# Altium schematic symbol library Actel IGLOOnano FPGA.SchLib: 440 symbols (part 2 of 3)
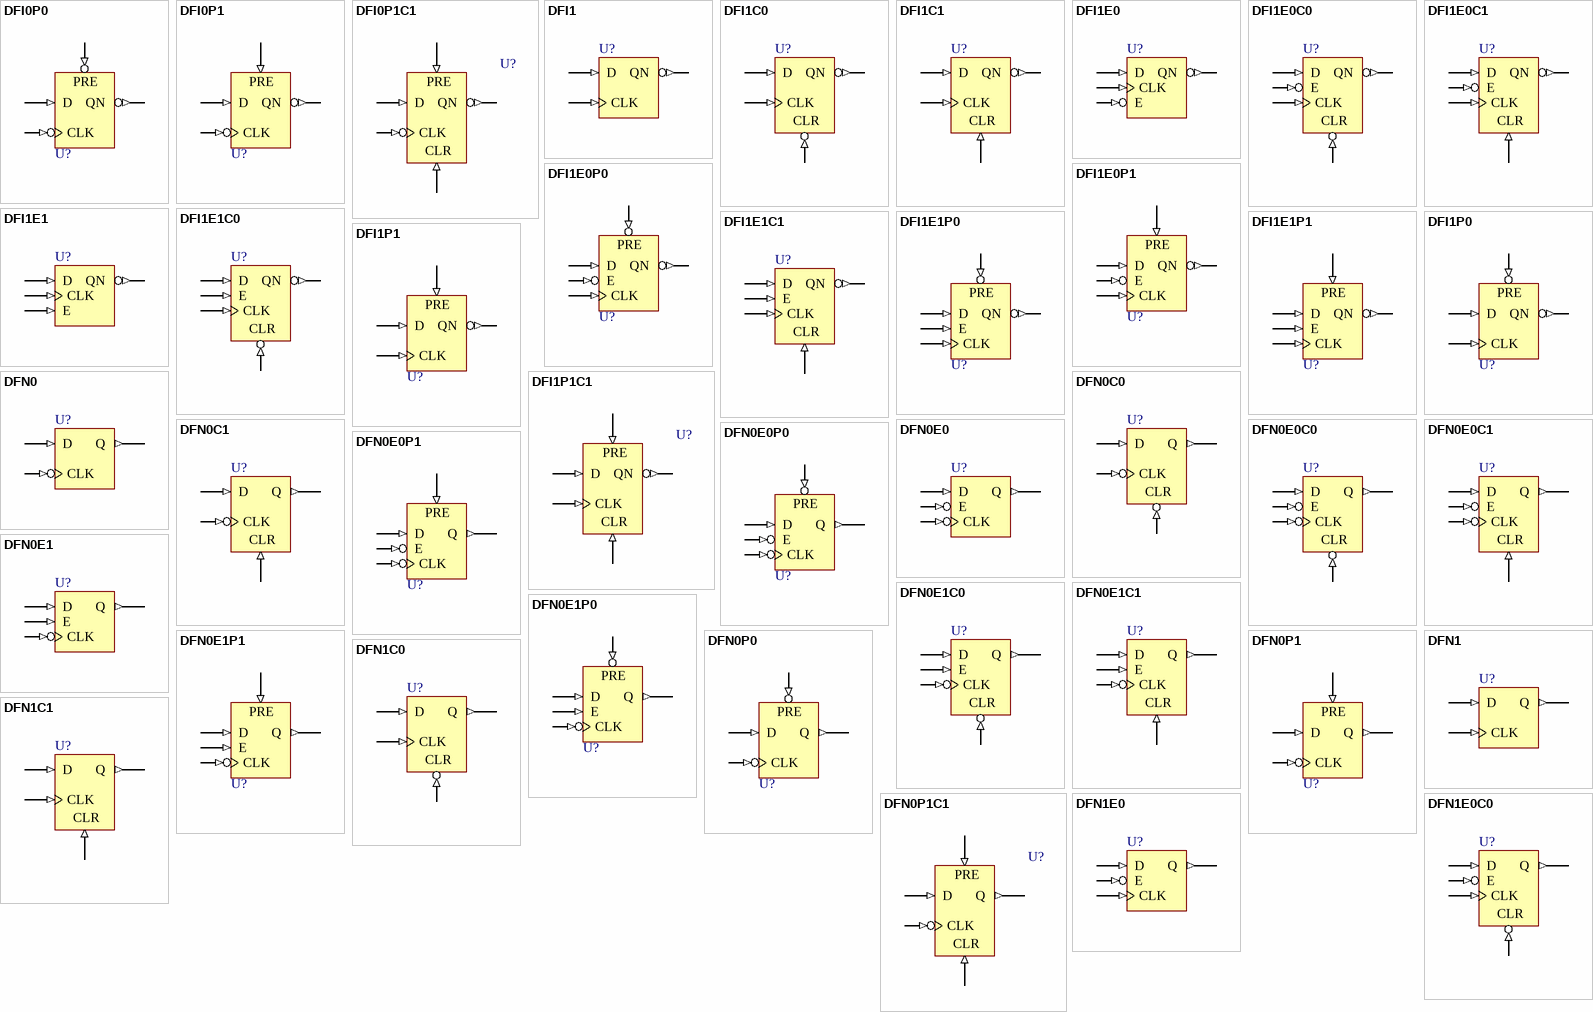
[diagram p12: symbols DFI0P0 to DFN1E0C0]

## DFI1E1P0
designator U?
D-Type Flip-Flop with active high Enable, active low Preset, and inverted output; FPGAVendor: Actel; Published: 25-Oct-2005; Publisher: Altium Limited; HelpURL: http://www.actel.com/documents/pa3_libguide_ug.pdf
pins: CLK (in), D (in), E (in), PRE (in), QN (out)

## DFI1E1P1
designator U?
D-Type Flip-Flop with active high Enable and Preset and inverted output; FPGAVendor: Actel; Published: 25-Oct-2005; Publisher: Altium Limited; HelpURL: http://www.actel.com/documents/pa3_libguide_ug.pdf
pins: CLK (in), D (in), E (in), PRE (in), QN (out)

## DFI1P0
designator U?
D-Type Flip-Flop with active low Preset and inverted Output; FPGAVendor: Actel; Published: 25-Oct-2005; Publisher: Altium Limited; HelpURL: http://www.actel.com/documents/pa3_libguide_ug.pdf
pins: CLK (in), D (in), PRE (in), QN (out)

## DFI1P1
designator U?
D-Type Flip-Flop with active high Preset, and inverted Output; FPGAVendor: Actel; Published: 25-Oct-2005; Publisher: Altium Limited; HelpURL: http://www.actel.com/documents/pa3_libguide_ug.pdf
pins: CLK (in), D (in), PRE (in), QN (out)

## DFI1P1C1
designator U?
Rising Edge Triggered D-Type Flip-Flop with Active High Preset and Clear and inverted Output; FPGAVendor: Actel; Published: 25-Oct-2005; Publisher: Altium Limited; HelpURL: http://www.actel.com/documents/pa3_libguide_ug.pdf
pins: CLK (in), CLR (in), D (in), PRE (in), QN (out)

## DFN0
designator U?
D-Type Flip-Flop with active low Clock; FPGAVendor: Actel; Published: 25-Oct-2005; Publisher: Altium Limited; HelpURL: http://www.actel.com/documents/pa3_libguide_ug.pdf
pins: CLK (in), D (in), Q (out)

## DFN0C0
designator U?
D-Type Flip-Flop with active low Clear and Clock; FPGAVendor: Actel; Published: 25-Oct-2005; Publisher: Altium Limited; HelpURL: http://www.actel.com/documents/pa3_libguide_ug.pdf
pins: CLK (in), CLR (in), D (in), Q (out)

## DFN0C1
designator U?
D-Type Flip-Flop with active high Clear and active low Clock; FPGAVendor: Actel; Published: 25-Oct-2005; Publisher: Altium Limited; HelpURL: http://www.actel.com/documents/pa3_libguide_ug.pdf
pins: CLK (in), CLR (in), D (in), Q (out)

## DFN0E0
designator U?
D-Type Flip-Flop with active low Enable and Clock; FPGAVendor: Actel; Published: 25-Oct-2005; Publisher: Altium Limited; HelpURL: http://www.actel.com/documents/pa3_libguide_ug.pdf
pins: CLK (in), D (in), E (in), Q (out)

## DFN0E0C0
designator U?
D-Type Flip-Flop with active low Enable, Clear and Clock; FPGAVendor: Actel; Published: 25-Oct-2005; Publisher: Altium Limited; HelpURL: http://www.actel.com/documents/pa3_libguide_ug.pdf
pins: CLK (in), CLR (in), D (in), E (in), Q (out)

## DFN0E0C1
designator U?
D-Type Flip-Flop with active low Enable, Clock and active high Clear; FPGAVendor: Actel; Published: 25-Oct-2005; Publisher: Altium Limited; HelpURL: http://www.actel.com/documents/pa3_libguide_ug.pdf
pins: CLK (in), CLR (in), D (in), E (in), Q (out)

## DFN0E0P0
designator U?
D-Type Flip-Flop with active low Enable, Clock, and Preset; FPGAVendor: Actel; Published: 25-Oct-2005; Publisher: Altium Limited; HelpURL: http://www.actel.com/documents/pa3_libguide_ug.pdf
pins: CLK (in), D (in), E (in), PRE (in), Q (out)

## DFN0E0P1
designator U?
D-Type Flip-Flop with active low Enable and Clock, and active high Preset; FPGAVendor: Actel; Published: 25-Oct-2005; Publisher: Altium Limited; HelpURL: http://www.actel.com/documents/pa3_libguide_ug.pdf
pins: CLK (in), D (in), E (in), PRE (in), Q (out)

## DFN0E1
designator U?
D-Type Flip-Flop, with Enable, and active low Clock; FPGAVendor: Actel; Published: 25-Oct-2005; Publisher: Altium Limited; HelpURL: http://www.actel.com/documents/pa3_libguide_ug.pdf
pins: CLK (in), D (in), E (in), Q (out)

## DFN0E1C0
designator U?
D-Type Flip-Flop with Enable and active low Clear and Clock; FPGAVendor: Actel; Published: 25-Oct-2005; Publisher: Altium Limited; HelpURL: http://www.actel.com/documents/pa3_libguide_ug.pdf
pins: CLK (in), CLR (in), D (in), E (in), Q (out)

## DFN0E1C1
designator U?
D-Type Flip-Flop with Enable and active high Clear and active low Clock; FPGAVendor: Actel; Published: 25-Oct-2005; Publisher: Altium Limited; HelpURL: http://www.actel.com/documents/pa3_libguide_ug.pdf
pins: CLK (in), CLR (in), D (in), E (in), Q (out)

## DFN0E1P0
designator U?
D-Type Flip-Flop with active high Enable and active low Preset and Clock; FPGAVendor: Actel; Published: 25-Oct-2005; Publisher: Altium Limited; HelpURL: http://www.actel.com/documents/pa3_libguide_ug.pdf
pins: CLK (in), D (in), E (in), PRE (in), Q (out)

## DFN0E1P1
designator U?
D-Type Flip-Flop with active high Enable and Preset, and active low Clock; FPGAVendor: Actel; Published: 25-Oct-2005; Publisher: Altium Limited; HelpURL: http://www.actel.com/documents/pa3_libguide_ug.pdf
pins: CLK (in), D (in), E (in), PRE (in), Q (out)

## DFN0P0
designator U?
D-Type Flip-Flop with active low Preset and Clock; FPGAVendor: Actel; Published: 25-Oct-2005; Publisher: Altium Limited; HelpURL: http://www.actel.com/documents/pa3_libguide_ug.pdf
pins: CLK (in), D (in), PRE (in), Q (out)

## DFN0P1
designator U?
D-Type Flip-Flop with active high Preset, and active low Clock; FPGAVendor: Actel; Published: 25-Oct-2005; Publisher: Altium Limited; HelpURL: http://www.actel.com/documents/pa3_libguide_ug.pdf
pins: CLK (in), D (in), PRE (in), Q (out)

## DFN0P1C1
designator U?
Falling Edge Triggered D-Type Flip-Flop with Active High Preset and Clear; FPGAVendor: Actel; Published: 25-Oct-2005; Publisher: Altium Limited; HelpURL: http://www.actel.com/documents/pa3_libguide_ug.pdf
pins: CLK (in), CLR (in), D (in), PRE (in), Q (out)

## DFN1
designator U?
D-Type Flip-Flop; FPGAVendor: Actel; Published: 25-Oct-2005; Publisher: Altium Limited; HelpURL: http://www.actel.com/documents/pa3_libguide_ug.pdf
pins: CLK (in), D (in), Q (out)

## DFN1C0
designator U?
D-Type Flip-Flop with active low Clear; FPGAVendor: Actel; Published: 25-Oct-2005; Publisher: Altium Limited; HelpURL: http://www.actel.com/documents/pa3_libguide_ug.pdf
pins: CLK (in), CLR (in), D (in), Q (out)

## DFN1C1
designator U?
D-Type Flip-Flop with active high Clear; FPGAVendor: Actel; Published: 25-Oct-2005; Publisher: Altium Limited; HelpURL: http://www.actel.com/documents/pa3_libguide_ug.pdf
pins: CLK (in), CLR (in), D (in), Q (out)

## DFN1E0
designator U?
D-Type Flip-Flop with active low Enable; FPGAVendor: Actel; Published: 25-Oct-2005; Publisher: Altium Limited; HelpURL: http://www.actel.com/documents/pa3_libguide_ug.pdf
pins: CLK (in), D (in), E (in), Q (out)

## DFN1E0C0
designator U?
D-Type Flip-Flop with Active Low Enable and Clear; FPGAVendor: Actel; Published: 25-Oct-2005; Publisher: Altium Limited; HelpURL: http://www.actel.com/documents/pa3_libguide_ug.pdf
pins: CLK (in), CLR (in), D (in), E (in), Q (out)

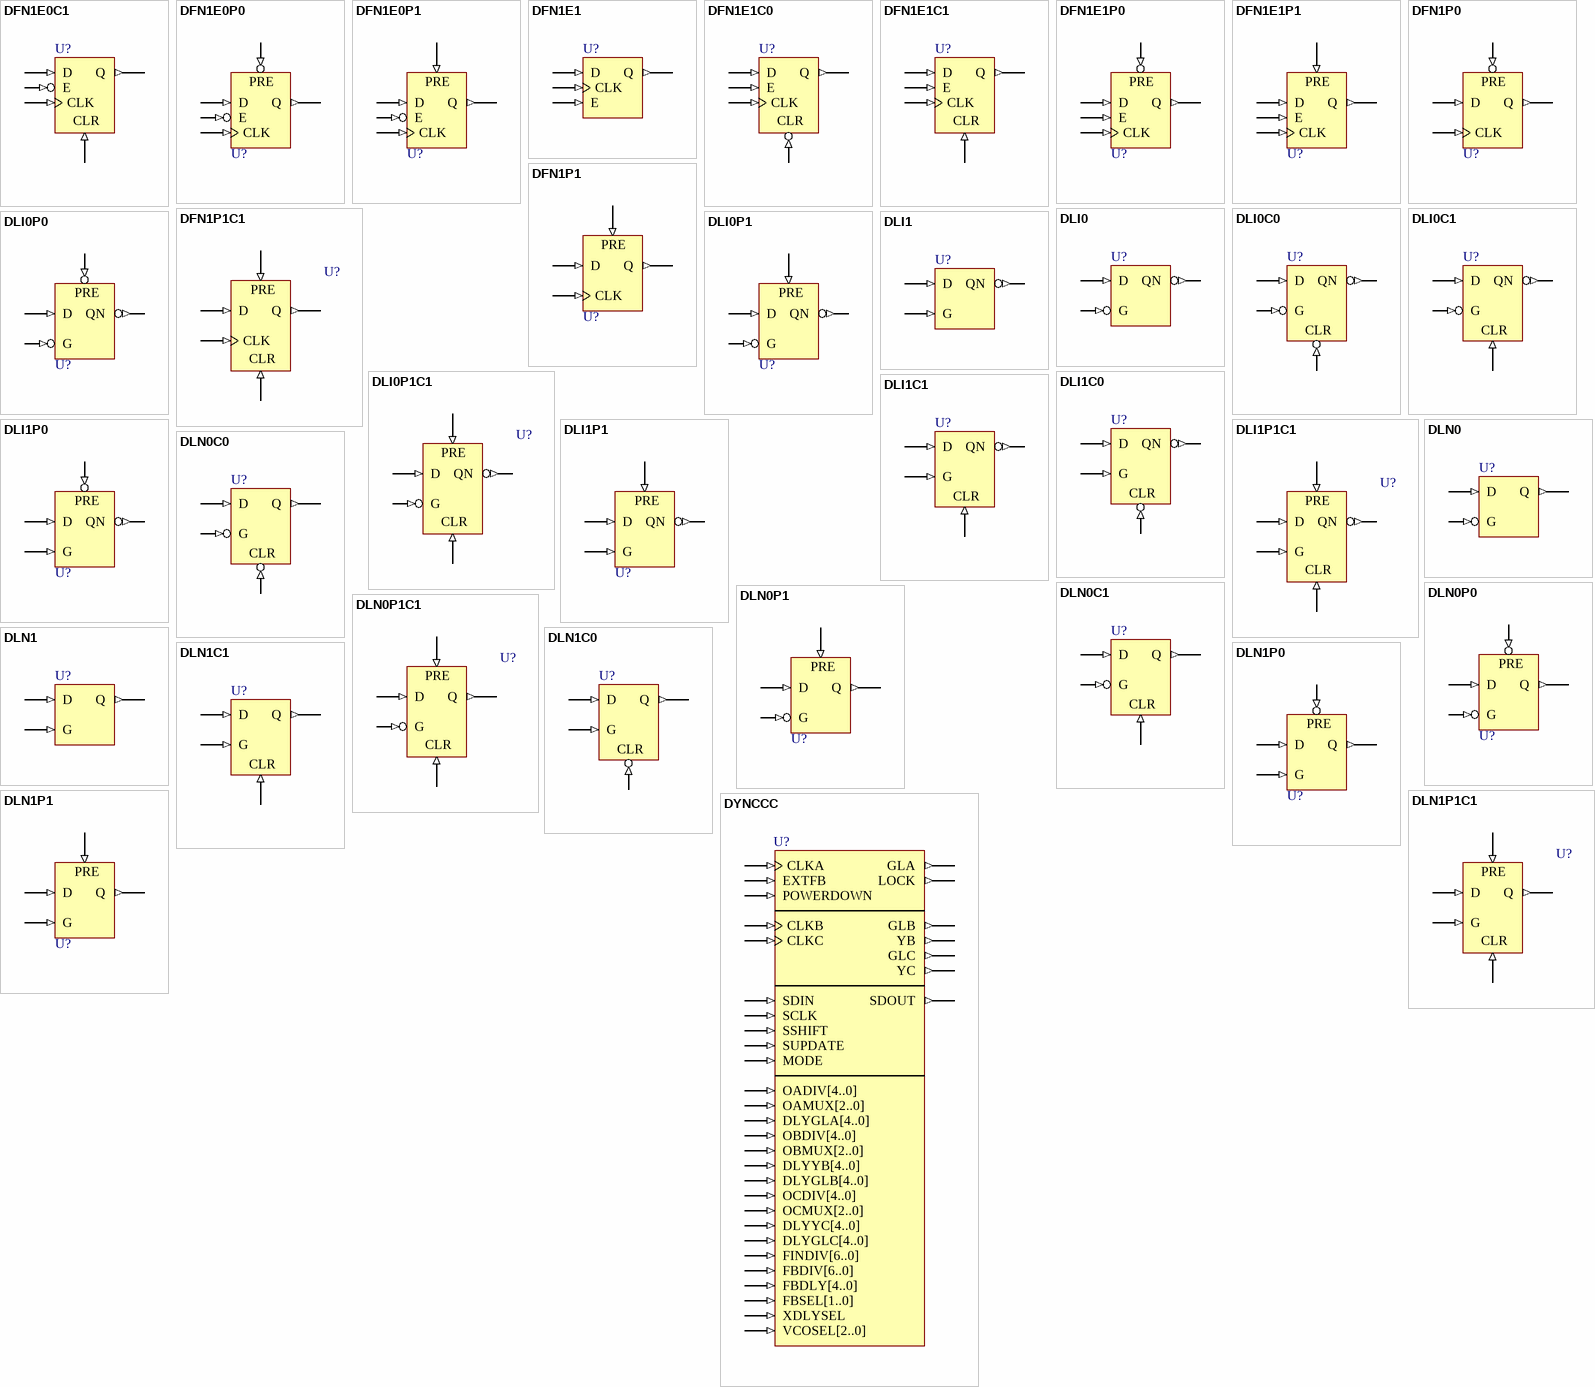
[diagram p5: symbols DFN1E0C1 to DYNCCC]

## DFN1E0C1
designator U?
D-Type Flip-Flop with Active Low Enable and active high Clear; FPGAVendor: Actel; Published: 25-Oct-2005; Publisher: Altium Limited; HelpURL: http://www.actel.com/documents/pa3_libguide_ug.pdf
pins: CLK (in), CLR (in), D (in), E (in), Q (out)

## DFN1E0P0
designator U?
D-Type Flip-Flop with active low Enable and Preset; FPGAVendor: Actel; Published: 25-Oct-2005; Publisher: Altium Limited; HelpURL: http://www.actel.com/documents/pa3_libguide_ug.pdf
pins: CLK (in), D (in), E (in), PRE (in), Q (out)

## DFN1E0P1
designator U?
D-Type Flip-Flop with active low Enable, and active high Preset; FPGAVendor: Actel; Published: 25-Oct-2005; Publisher: Altium Limited; HelpURL: http://www.actel.com/documents/pa3_libguide_ug.pdf
pins: CLK (in), D (in), E (in), PRE (in), Q (out)

## DFN1E1
designator U?
D-Type Flip-Flop with active high Enable; FPGAVendor: Actel; Published: 25-Oct-2005; Publisher: Altium Limited; HelpURL: http://www.actel.com/documents/pa3_libguide_ug.pdf
pins: CLK (in), D (in), E (in), Q (out)

## DFN1E1C0
designator U?
D-Type Flip-Flop, with Enable and active low Clear; FPGAVendor: Actel; Published: 25-Oct-2005; Publisher: Altium Limited; HelpURL: http://www.actel.com/documents/pa3_libguide_ug.pdf
pins: CLK (in), CLR (in), D (in), E (in), Q (out)

## DFN1E1C1
designator U?
D-Type Flip-Flop, with Enable and active high Clear; FPGAVendor: Actel; Published: 25-Oct-2005; Publisher: Altium Limited; HelpURL: http://www.actel.com/documents/pa3_libguide_ug.pdf
pins: CLK (in), CLR (in), D (in), E (in), Q (out)

## DFN1E1P0
designator U?
D-Type Flip-Flop with active high Enable and active low Preset; FPGAVendor: Actel; Published: 25-Oct-2005; Publisher: Altium Limited; HelpURL: http://www.actel.com/documents/pa3_libguide_ug.pdf
pins: CLK (in), D (in), E (in), PRE (in), Q (out)

## DFN1E1P1
designator U?
D-Type Flip-Flop with active high Enable and Preset; FPGAVendor: Actel; Published: 25-Oct-2005; Publisher: Altium Limited; HelpURL: http://www.actel.com/documents/pa3_libguide_ug.pdf
pins: CLK (in), D (in), E (in), PRE (in), Q (out)

## DFN1P0
designator U?
D-Type Flip-Flop with active low Preset; FPGAVendor: Actel; Published: 25-Oct-2005; Publisher: Altium Limited; HelpURL: http://www.actel.com/documents/pa3_libguide_ug.pdf
pins: CLK (in), D (in), PRE (in), Q (out)

## DFN1P1
designator U?
D-Type Flip-Flop with active high Preset; FPGAVendor: Actel; Published: 25-Oct-2005; Publisher: Altium Limited; HelpURL: http://www.actel.com/documents/pa3_libguide_ug.pdf
pins: CLK (in), D (in), PRE (in), Q (out)

## DFN1P1C1
designator U?
Rising Edge Triggered D-Type Flip-Flop with Active High Preset and Clear; FPGAVendor: Actel; Published: 25-Oct-2005; Publisher: Altium Limited; HelpURL: http://www.actel.com/documents/pa3_libguide_ug.pdf
pins: CLK (in), CLR (in), D (in), PRE (in), Q (out)

## DLI0
designator U?
Data Latch, with active low Clock and inverted Output; FPGAVendor: Actel; Published: 25-Oct-2005; Publisher: Altium Limited; HelpURL: http://www.actel.com/documents/pa3_libguide_ug.pdf
pins: D (in), G (in), QN (out)

## DLI0C0
designator U?
Data Latch with active low Clear, Clock, and inverted Output; FPGAVendor: Actel; Published: 25-Oct-2005; Publisher: Altium Limited; HelpURL: http://www.actel.com/documents/pa3_libguide_ug.pdf
pins: CLR (in), D (in), G (in), QN (out)

## DLI0C1
designator U?
Data Latch with active high Clear and active low Clock and inverted Output; FPGAVendor: Actel; Published: 25-Oct-2005; Publisher: Altium Limited; HelpURL: http://www.actel.com/documents/pa3_libguide_ug.pdf
pins: CLR (in), D (in), G (in), QN (out)

## DLI0P0
designator U?
Data Latch with active low Preset, Clock, and inverted Output; FPGAVendor: Actel; Published: 25-Oct-2005; Publisher: Altium Limited; HelpURL: http://www.actel.com/documents/pa3_libguide_ug.pdf
pins: D (in), G (in), PRE (in), QN (out)

## DLI0P1
designator U?
Active Low Latch with Active High Preset and inverted Output; FPGAVendor: Actel; Published: 25-Oct-2005; Publisher: Altium Limited; HelpURL: http://www.actel.com/documents/pa3_libguide_ug.pdf
pins: D (in), G (in), PRE (in), QN (out)

## DLI0P1C1
designator U?
Active Low Latch with Active High Preset and Clear and inverted Output; FPGAVendor: Actel; Published: 25-Oct-2005; Publisher: Altium Limited; HelpURL: http://www.actel.com/documents/pa3_libguide_ug.pdf
pins: CLR (in), D (in), G (in), PRE (in), QN (out)

## DLI1
designator U?
Data Latch with inverted Output; FPGAVendor: Actel; Published: 25-Oct-2005; Publisher: Altium Limited; HelpURL: http://www.actel.com/documents/pa3_libguide_ug.pdf
pins: D (in), G (in), QN (out)

## DLI1C0
designator U?
Data Latch with active low Clear and inverted output; FPGAVendor: Actel; Published: 25-Oct-2005; Publisher: Altium Limited; HelpURL: http://www.actel.com/documents/pa3_libguide_ug.pdf
pins: CLR (in), D (in), G (in), QN (out)

## DLI1C1
designator U?
Data Latch with active high Clear and inverted Output; FPGAVendor: Actel; Published: 25-Oct-2005; Publisher: Altium Limited; HelpURL: http://www.actel.com/documents/pa3_libguide_ug.pdf
pins: CLR (in), D (in), G (in), QN (out)

## DLI1P0
designator U?
Data Latch with active low Preset and Output, and active high Clock; FPGAVendor: Actel; Published: 25-Oct-2005; Publisher: Altium Limited; HelpURL: http://www.actel.com/documents/pa3_libguide_ug.pdf
pins: D (in), G (in), PRE (in), QN (out)

## DLI1P1
designator U?
Active High Latch with Active High Preset and inverted Output; FPGAVendor: Actel; Published: 25-Oct-2005; Publisher: Altium Limited; HelpURL: http://www.actel.com/documents/pa3_libguide_ug.pdf
pins: D (in), G (in), PRE (in), QN (out)

## DLI1P1C1
designator U?
Active High Latch with Active High Preset and Clear and inverted Output; FPGAVendor: Actel; Published: 25-Oct-2005; Publisher: Altium Limited; HelpURL: http://www.actel.com/documents/pa3_libguide_ug.pdf
pins: CLR (in), D (in), G (in), PRE (in), QN (out)

## DLN0
designator U?
Data Latch with active low Clock; FPGAVendor: Actel; Published: 25-Oct-2005; Publisher: Altium Limited; HelpURL: http://www.actel.com/documents/pa3_libguide_ug.pdf
pins: D (in), G (in), Q (out)

## DLN0C0
designator U?
Data Latch with active low Clear and Clock; FPGAVendor: Actel; Published: 25-Oct-2005; Publisher: Altium Limited; HelpURL: http://www.actel.com/documents/pa3_libguide_ug.pdf
pins: CLR (in), D (in), G (in), Q (out)

## DLN0C1
designator U?
Data Latch with active high Clear and active low Clock; FPGAVendor: Actel; Published: 25-Oct-2005; Publisher: Altium Limited; HelpURL: http://www.actel.com/documents/pa3_libguide_ug.pdf
pins: CLR (in), D (in), G (in), Q (out)

## DLN0P0
designator U?
Data Latch with active low Preset and Clock; FPGAVendor: Actel; Published: 25-Oct-2005; Publisher: Altium Limited; HelpURL: http://www.actel.com/documents/pa3_libguide_ug.pdf
pins: D (in), G (in), PRE (in), Q (out)

## DLN0P1
designator U?
Data Latch with active high Preset and active low Clock; FPGAVendor: Actel; Published: 25-Oct-2005; Publisher: Altium Limited; HelpURL: http://www.actel.com/documents/pa3_libguide_ug.pdf
pins: D (in), G (in), PRE (in), Q (out)

## DLN0P1C1
designator U?
Active Low Latch with Active High Preset and Clear; FPGAVendor: Actel; Published: 25-Oct-2005; Publisher: Altium Limited; HelpURL: http://www.actel.com/documents/pa3_libguide_ug.pdf
pins: CLR (in), D (in), G (in), PRE (in), Q (out)

## DLN1
designator U?
Data Latch; FPGAVendor: Actel; Published: 25-Oct-2005; Publisher: Altium Limited; HelpURL: http://www.actel.com/documents/pa3_libguide_ug.pdf
pins: D (in), G (in), Q (out)

## DLN1C0
designator U?
Data Latch with active low Clear; FPGAVendor: Actel; Published: 25-Oct-2005; Publisher: Altium Limited; HelpURL: http://www.actel.com/documents/pa3_libguide_ug.pdf
pins: CLR (in), D (in), G (in), Q (out)

## DLN1C1
designator U?
Data Latch with active high Clear; FPGAVendor: Actel; Published: 25-Oct-2005; Publisher: Altium Limited; HelpURL: http://www.actel.com/documents/pa3_libguide_ug.pdf
pins: CLR (in), D (in), G (in), Q (out)

## DLN1P0
designator U?
Data Latch with active low Preset and active high Clock; FPGAVendor: Actel; Published: 25-Oct-2005; Publisher: Altium Limited; HelpURL: http://www.actel.com/documents/pa3_libguide_ug.pdf
pins: D (in), G (in), PRE (in), Q (out)

## DLN1P1
designator U?
Data Latch with active high Preset and Clock; FPGAVendor: Actel; Published: 25-Oct-2005; Publisher: Altium Limited; HelpURL: http://www.actel.com/documents/pa3_libguide_ug.pdf
pins: D (in), G (in), PRE (in), Q (out)

## DLN1P1C1
designator U?
Active High Latch with Active High Preset and Clear; FPGAVendor: Actel; Published: 25-Oct-2005; Publisher: Altium Limited; HelpURL: http://www.actel.com/documents/pa3_libguide_ug.pdf
pins: CLR (in), D (in), G (in), PRE (in), Q (out)

## DYNCCC
designator U?
Dynamic PLL Clock Conditioning Circuitry; FPGAVendor: Actel; Published: 7-Sep-2009; Publisher: Altium Limited; HelpURL: http://www.actel.com/documents/pa3_libguide_ug.pdf
pins: CLKA (in), CLKB (in), CLKC (in), DLYGLA[4..0] (in), DLYGLB[4..0] (in), DLYGLC[4..0] (in), DLYYB[4..0] (in), DLYYC[4..0] (in), EXTFB (in), FBDIV[6..0] (in), FBDLY[4..0] (in), FBSEL[1..0] (in), FINDIV[6..0] (in), GLA (out), GLB (out), GLC (out), LOCK (out), MODE (in), OADIV[4..0] (in), OAMUX[2..0] (in), OBDIV[4..0] (in), OBMUX[2..0] (in), OCDIV[4..0] (in), OCMUX[2..0] (in), POWERDOWN (in), SCLK (in), SDIN (in), SDOUT (out), SSHIFT (in), SUPDATE (in), VCOSEL[2..0] (in), XDLYSEL (in), YB (out), YC (out)

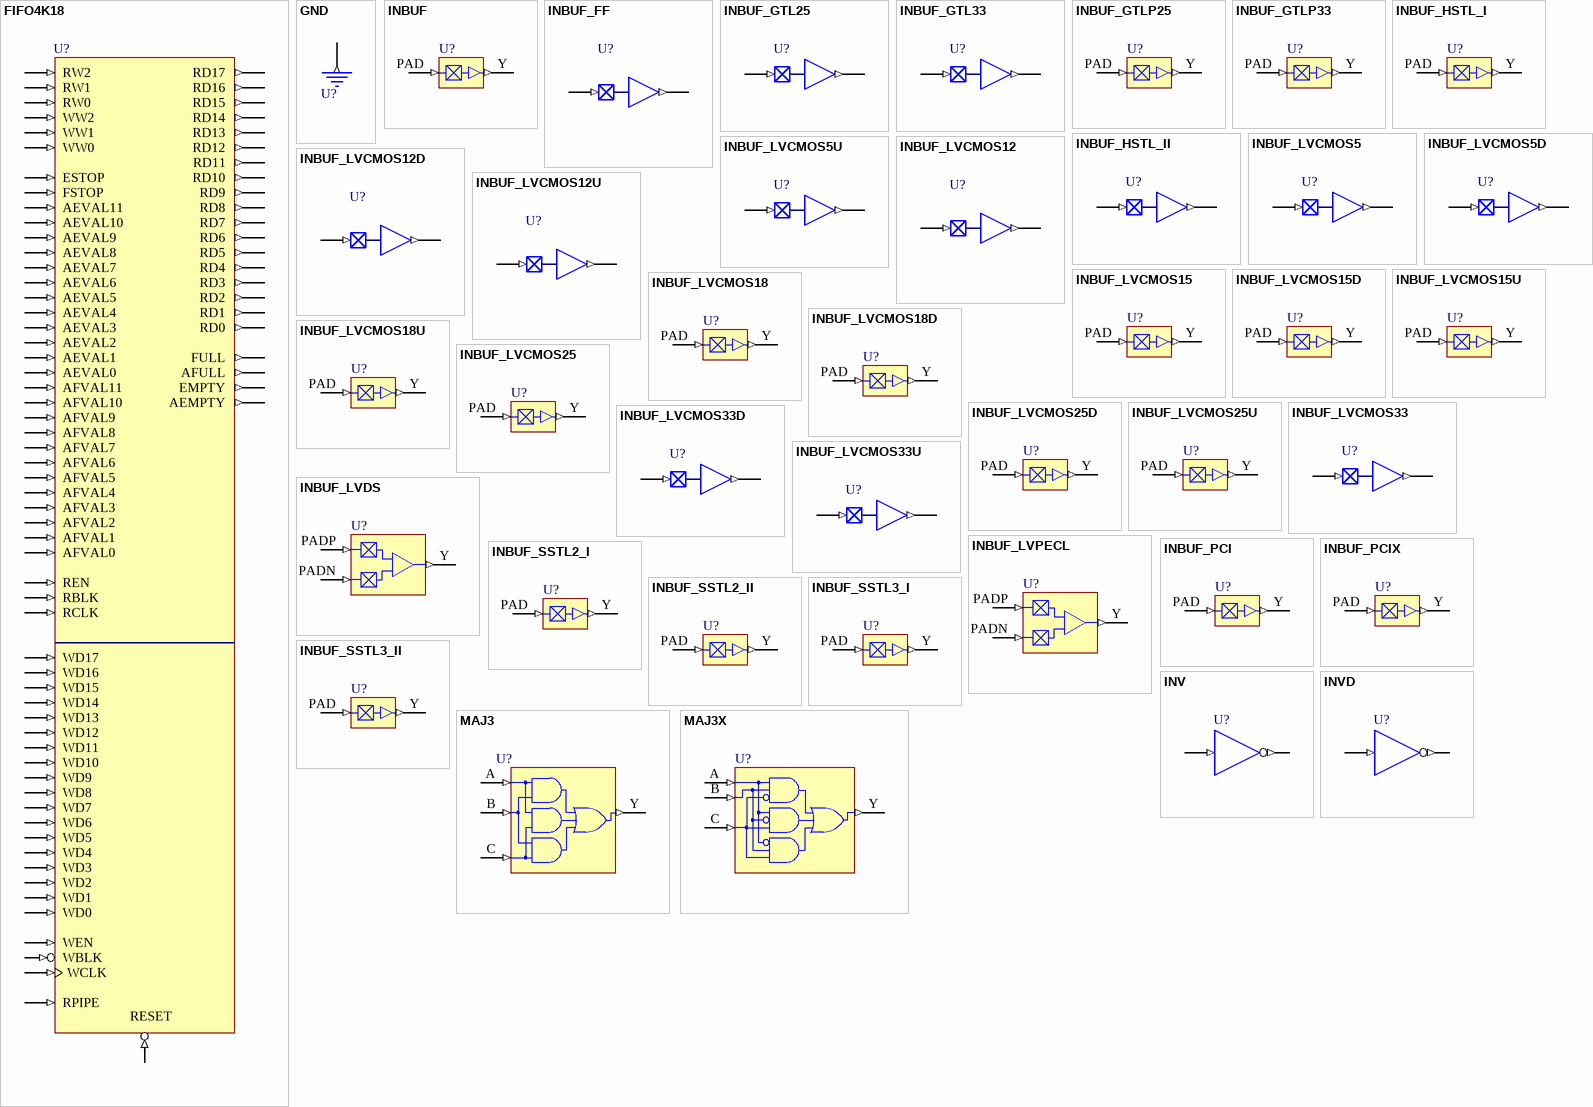
[diagram p6: symbols FIFO4K18 to MAJ3X]

## FIFO4K18
designator U?
FIFO4K18 is fully synchronous and has its own built-in controller,capable of variable aspect ratios; FPGAVendor: Actel; Published: 25-Oct-2005; Publisher: Altium Limited; HelpURL: http://www.actel.com/documents/pa3_libguide_ug.pdf
pins: AEMPTY (out), AEVAL0 (in), AEVAL1 (in), AEVAL2 (in), AEVAL3 (in), AEVAL4 (in), AEVAL5 (in), AEVAL6 (in), AEVAL7 (in), AEVAL8 (in), AEVAL9 (in), AEVAL10 (in), AEVAL11 (in), AFULL (out), AFVAL0 (in), AFVAL1 (in), AFVAL2 (in), AFVAL3 (in), AFVAL4 (in), AFVAL5 (in), AFVAL6 (in), AFVAL7 (in), AFVAL8 (in), AFVAL9 (in), AFVAL10 (in), AFVAL11 (in), EMPTY (out), ESTOP (in), FSTOP (in), FULL (out), RBLK (in), RCLK (in), RD0 (out), RD1 (out), RD2 (out), RD3 (out), RD4 (out), RD5 (out), RD6 (out), RD7 (out), RD8 (out), RD9 (out), RD10 (out), RD11 (out), RD12 (out), RD13 (out), RD14 (out), RD15 (out), RD16 (out), RD17 (out), REN (in), RESET (in), RPIPE (in), RW0 (in), RW1 (in), RW2 (in), WBLK (in), WCLK (in), WD0 (in), WD1 (in), WD2 (in), WD3 (in), WD4 (in), WD5 (in), WD6 (in), WD7 (in), WD8 (in), WD9 (in), WD10 (in), WD11 (in), WD12 (in), WD13 (in), WD14 (in), WD15 (in), WD16 (in), WD17 (in), WEN (in), WW0 (in), WW1 (in), WW2 (in)

## GND
designator U?
Ground; FPGAVendor: Actel; Published: 17/04/2002 3:26:26 PM; LatestRevisionNote: 5/09/2003; DatasheetVersion: Sep-2000; Publisher: Altium Limited; HelpURL: http://www.actel.com/documents/pa3_libguide_ug.pdf
pins: Y (out)

## INBUF
designator U?
Input Buffer; FPGAVendor: Actel; Published: 17/04/2002 3:26:26 PM; LatestRevisionNote: 5/09/2003; DatasheetVersion: Sep-2000; Publisher: Altium Limited; HelpURL: http://www.actel.com/documents/pa3_libguide_ug.pdf
pins: PAD (in), Y (out)

## INBUF_FF
designator U?
FF Input Output Buffer Pad; FPGAVendor: Actel; Published: 7-Sep-2009; Publisher: Altium Limited; HelpURL: http://www.actel.com/documents/pa3_libguide_ug.pdf
pins: PAD (in), Y (out)

## INBUF_GTL25
designator U?
GTL input buffer; FPGAVendor: Actel; Published: 7-Sep-2009; Publisher: Altium Limited; HelpURL: http://www.actel.com/documents/pa3_libguide_ug.pdf
pins: PAD (in), Y (out)

## INBUF_GTL33
designator U?
GTL input buffer; FPGAVendor: Actel; Published: 7-Sep-2009; Publisher: Altium Limited; HelpURL: http://www.actel.com/documents/pa3_libguide_ug.pdf
pins: PAD (in), Y (out)

## INBUF_GTLP25
designator U?
GTLP Input buffer with 3.3 CMOS voltage level; FPGAVendor: Actel; Published: 28-Jan-2003; LatestRevisionNote: 5/09/2003; DatasheetVersion: Jun-2002; Publisher: Altium Limited; HelpURL: http://www.actel.com/documents/pa3_libguide_ug.pdf
pins: PAD (in), Y (out)

## INBUF_GTLP33
designator U?
GTLP Input buffer with 2.5 CMOS voltage level; FPGAVendor: Actel; Published: 28-Jan-2003; LatestRevisionNote: 5/09/2003; DatasheetVersion: Jun-2002; Publisher: Altium Limited; HelpURL: http://www.actel.com/documents/pa3_libguide_ug.pdf
pins: PAD (in), Y (out)

## INBUF_HSTL_I
designator U?
Global Input Buffer, HSTL Class I; FPGAVendor: Actel; Published: 28-Jan-2003; LatestRevisionNote: 5/09/2003; DatasheetVersion: Jun-2002; Publisher: Altium Limited; HelpURL: http://www.actel.com/documents/pa3_libguide_ug.pdf
pins: PAD (in), Y (out)

## INBUF_HSTL_II
designator U?
HSTL class II input buffer; FPGAVendor: Actel; Published: 7-Sep-2009; Publisher: Altium Limited; HelpURL: http://www.actel.com/documents/pa3_libguide_ug.pdf
pins: PAD (in), Y (out)

## INBUF_LVCMOS5
designator U?
LVCMOS5 Input Buffer with 5.0 CMOS voltage level; FPGAVendor: Actel; Published: 25-Oct-2005; Publisher: Altium Limited; HelpURL: http://www.actel.com/documents/pa3_libguide_ug.pdf
pins: PAD (in), Y (out)

## INBUF_LVCMOS5D
designator U?
LVCMOS5 Input Buffer with 5.0 CMOS voltage level, pull-down resistor; FPGAVendor: Actel; Published: 25-Oct-2005; Publisher: Altium Limited; HelpURL: http://www.actel.com/documents/pa3_libguide_ug.pdf
pins: PAD (in), Y (out)

## INBUF_LVCMOS5U
designator U?
LVCMOS5 Input Buffer with 5.0 CMOS voltage level, pull-up resistor; FPGAVendor: Actel; Published: 25-Oct-2005; Publisher: Altium Limited; HelpURL: http://www.actel.com/documents/pa3_libguide_ug.pdf
pins: PAD (in), Y (out)

## INBUF_LVCMOS12
designator U?
LVCMOS12 Input Output Buffer Pad; FPGAVendor: Actel; Published: 7-Sep-2009; Publisher: Altium Limited; HelpURL: http://www.actel.com/documents/pa3_libguide_ug.pdf
pins: PAD (in), Y (out)

## INBUF_LVCMOS12D
designator U?
LVCMOS12D Input Output Buffer Pad; FPGAVendor: Actel; Published: 7-Sep-2009; Publisher: Altium Limited; HelpURL: http://www.actel.com/documents/pa3_libguide_ug.pdf
pins: PAD (in), Y (out)

## INBUF_LVCMOS12U
designator U?
LVCMOS12U Input Output Buffer Pad; FPGAVendor: Actel; Published: 7-Sep-2009; Publisher: Altium Limited; HelpURL: http://www.actel.com/documents/pa3_libguide_ug.pdf
pins: PAD (in), Y (out)

## INBUF_LVCMOS15
designator U?
LVCMOS Input buffer with 1.5 CMOS voltage level; FPGAVendor: Actel; Published: 28-Jan-2003; LatestRevisionNote: 5/09/2003; DatasheetVersion: Jun-2002; Publisher: Altium Limited; HelpURL: http://www.actel.com/documents/pa3_libguide_ug.pdf
pins: PAD (in), Y (out)

## INBUF_LVCMOS15D
designator U?
LVCMOS Input buffer with 1.5 CMOS voltage level, pull-down resistor; FPGAVendor: Actel; Published: 28-Jan-2003; LatestRevisionNote: 5/09/2003; DatasheetVersion: Jun-2002; Publisher: Altium Limited; HelpURL: http://www.actel.com/documents/pa3_libguide_ug.pdf
pins: PAD (in), Y (out)

## INBUF_LVCMOS15U
designator U?
LVCMOS Input buffer with 1.5 CMOS voltage level, pull-up resistor; FPGAVendor: Actel; Published: 28-Jan-2003; LatestRevisionNote: 5/09/2003; DatasheetVersion: Jun-2002; Publisher: Altium Limited; HelpURL: http://www.actel.com/documents/pa3_libguide_ug.pdf
pins: PAD (in), Y (out)

## INBUF_LVCMOS18
designator U?
LVCMOS Input buffer with 1.8 CMOS voltage level; FPGAVendor: Actel; Published: 28-Jan-2003; LatestRevisionNote: 5/09/2003; DatasheetVersion: Jun-2002; Publisher: Altium Limited; HelpURL: http://www.actel.com/documents/pa3_libguide_ug.pdf
pins: PAD (in), Y (out)

## INBUF_LVCMOS18D
designator U?
LVCMOS Input buffer with 1.8 CMOS voltage level, pull-down resistor; FPGAVendor: Actel; Published: 28-Jan-2003; LatestRevisionNote: 5/09/2003; DatasheetVersion: Jun-2002; Publisher: Altium Limited; HelpURL: http://www.actel.com/documents/pa3_libguide_ug.pdf
pins: PAD (in), Y (out)

## INBUF_LVCMOS18U
designator U?
LVCMOS Input buffer with 1.8 CMOS voltage level, pull-up resistor; FPGAVendor: Actel; Published: 28-Jan-2003; LatestRevisionNote: 5/09/2003; DatasheetVersion: Jun-2002; Publisher: Altium Limited; HelpURL: http://www.actel.com/documents/pa3_libguide_ug.pdf
pins: PAD (in), Y (out)

## INBUF_LVCMOS25
designator U?
LVCMOS Input buffer with 2.5 CMOS voltage level; FPGAVendor: Actel; Published: 28-Jan-2003; LatestRevisionNote: 5/09/2003; DatasheetVersion: Jun-2002; Publisher: Altium Limited; HelpURL: http://www.actel.com/documents/pa3_libguide_ug.pdf
pins: PAD (in), Y (out)

## INBUF_LVCMOS25D
designator U?
LVCMOS Input buffer with 2.5 CMOS voltage level, pull-down resistor; FPGAVendor: Actel; Published: 28-Jan-2003; LatestRevisionNote: 5/09/2003; DatasheetVersion: Jun-2002; Publisher: Altium Limited; HelpURL: http://www.actel.com/documents/pa3_libguide_ug.pdf
pins: PAD (in), Y (out)

## INBUF_LVCMOS25U
designator U?
LVCMOS Input buffer with 2.5 CMOS voltage level, pull-up resistor; FPGAVendor: Actel; Published: 28-Jan-2003; LatestRevisionNote: 5/09/2003; DatasheetVersion: Jun-2002; Publisher: Altium Limited; HelpURL: http://www.actel.com/documents/pa3_libguide_ug.pdf
pins: PAD (in), Y (out)

## INBUF_LVCMOS33
designator U?
LVCMOS Input buffer with 3.3 CMOS voltage level; FPGAVendor: Actel; Published: 25-Oct-2005; Publisher: Altium Limited; HelpURL: http://www.actel.com/documents/pa3_libguide_ug.pdf
pins: PAD (in), Y (out)

## INBUF_LVCMOS33D
designator U?
LVCMOS Input buffer with 3.3 CMOS voltage level, pull-down resistor; FPGAVendor: Actel; Published: 25-Oct-2005; Publisher: Altium Limited; HelpURL: http://www.actel.com/documents/pa3_libguide_ug.pdf
pins: PAD (in), Y (out)

## INBUF_LVCMOS33U
designator U?
LVCMOS Input buffer with 3.3 CMOS voltage level, pull-up resistor; FPGAVendor: Actel; Published: 25-Oct-2005; Publisher: Altium Limited; HelpURL: http://www.actel.com/documents/pa3_libguide_ug.pdf
pins: PAD (in), Y (out)

## INBUF_LVDS
designator U?
INBUF_LVDS and INBUF_LVPECL; FPGAVendor: Actel; Published: 28-Jan-2003; LatestRevisionNote: 5/09/2003; DatasheetVersion: Jun-2002; Publisher: Altium Limited; HelpURL: http://www.actel.com/documents/pa3_libguide_ug.pdf
pins: PADN (in), PADP (in), Y (out)

## INBUF_LVPECL
designator U?
INBUF_LVDS and INBUF_LVPECL; FPGAVendor: Actel; Published: 28-Jan-2003; LatestRevisionNote: 5/09/2003; DatasheetVersion: Jun-2002; Publisher: Altium Limited; HelpURL: http://www.actel.com/documents/pa3_libguide_ug.pdf
pins: PADN (in), PADP (in), Y (out)

## INBUF_PCI
designator U?
PCI Input buffer; FPGAVendor: Actel; Published: 28-Jan-2003; LatestRevisionNote: 5/09/2003; DatasheetVersion: Jun-2002; Publisher: Altium Limited; HelpURL: http://www.actel.com/documents/pa3_libguide_ug.pdf
pins: PAD (in), Y (out)

## INBUF_PCIX
designator U?
PCIX Input buffer; FPGAVendor: Actel; Published: 28-Jan-2003; LatestRevisionNote: 5/09/2003; DatasheetVersion: Jun-2002; Publisher: Altium Limited; HelpURL: http://www.actel.com/documents/pa3_libguide_ug.pdf
pins: PAD (in), Y (out)

## INBUF_SSTL2_I
designator U?
SSTL2 Class I Input buffer; FPGAVendor: Actel; Published: 28-Jan-2003; LatestRevisionNote: 5/09/2003; DatasheetVersion: Jun-2002; Publisher: Altium Limited; HelpURL: http://www.actel.com/documents/pa3_libguide_ug.pdf
pins: PAD (in), Y (out)

## INBUF_SSTL2_II
designator U?
SSTL2 Class II Input buffer; FPGAVendor: Actel; Published: 28-Jan-2003; LatestRevisionNote: 5/09/2003; DatasheetVersion: Jun-2002; Publisher: Altium Limited; HelpURL: http://www.actel.com/documents/pa3_libguide_ug.pdf
pins: PAD (in), Y (out)

## INBUF_SSTL3_I
designator U?
SSTL3 Class I Input buffer; FPGAVendor: Actel; Published: 28-Jan-2003; LatestRevisionNote: 5/09/2003; DatasheetVersion: Jun-2002; Publisher: Altium Limited; HelpURL: http://www.actel.com/documents/pa3_libguide_ug.pdf
pins: PAD (in), Y (out)

## INBUF_SSTL3_II
designator U?
SSTL3 Class II Input buffer; FPGAVendor: Actel; Published: 28-Jan-2003; LatestRevisionNote: 5/09/2003; DatasheetVersion: Jun-2002; Publisher: Altium Limited; HelpURL: http://www.actel.com/documents/pa3_libguide_ug.pdf
pins: PAD (in), Y (out)

## INV
designator U?
Inverter with Active-Low Output; FPGAVendor: Actel; Published: 17/04/2002 3:26:26 PM; LatestRevisionNote: 5/09/2003; DatasheetVersion: Sep-2000; Publisher: Altium Limited; HelpURL: http://www.actel.com/documents/pa3_libguide_ug.pdf
pins: A (in), Y (out)

## INVD
designator U?
Inverter (Special Delay Macro); FPGAVendor: Actel; Published: 17/04/2002 3:26:26 PM; LatestRevisionNote: 5/09/2003; DatasheetVersion: Feb-2001; Publisher: Altium Limited; HelpURL: http://www.actel.com/documents/pa3_libguide_ug.pdf
pins: A (in), Y (out)

## MAJ3
designator U?
3-Input Majority Function; FPGAVendor: Actel; Published: 17/04/2002 3:26:26 PM; LatestRevisionNote: 5/09/2003; DatasheetVersion: Sep-2000; Publisher: Altium Limited; HelpURL: http://www.actel.com/documents/pa3_libguide_ug.pdf
pins: A (in), B (in), C (in), Y (out)

## MAJ3X
designator U?
2-of-3 Function; FPGAVendor: Actel; Published: 17/04/2002 3:26:26 PM; LatestRevisionNote: 5/09/2003; DatasheetVersion: Sep-2000; Publisher: Altium Limited; HelpURL: http://www.actel.com/documents/pa3_libguide_ug.pdf
pins: A (in), B (in), C (in), Y (out)

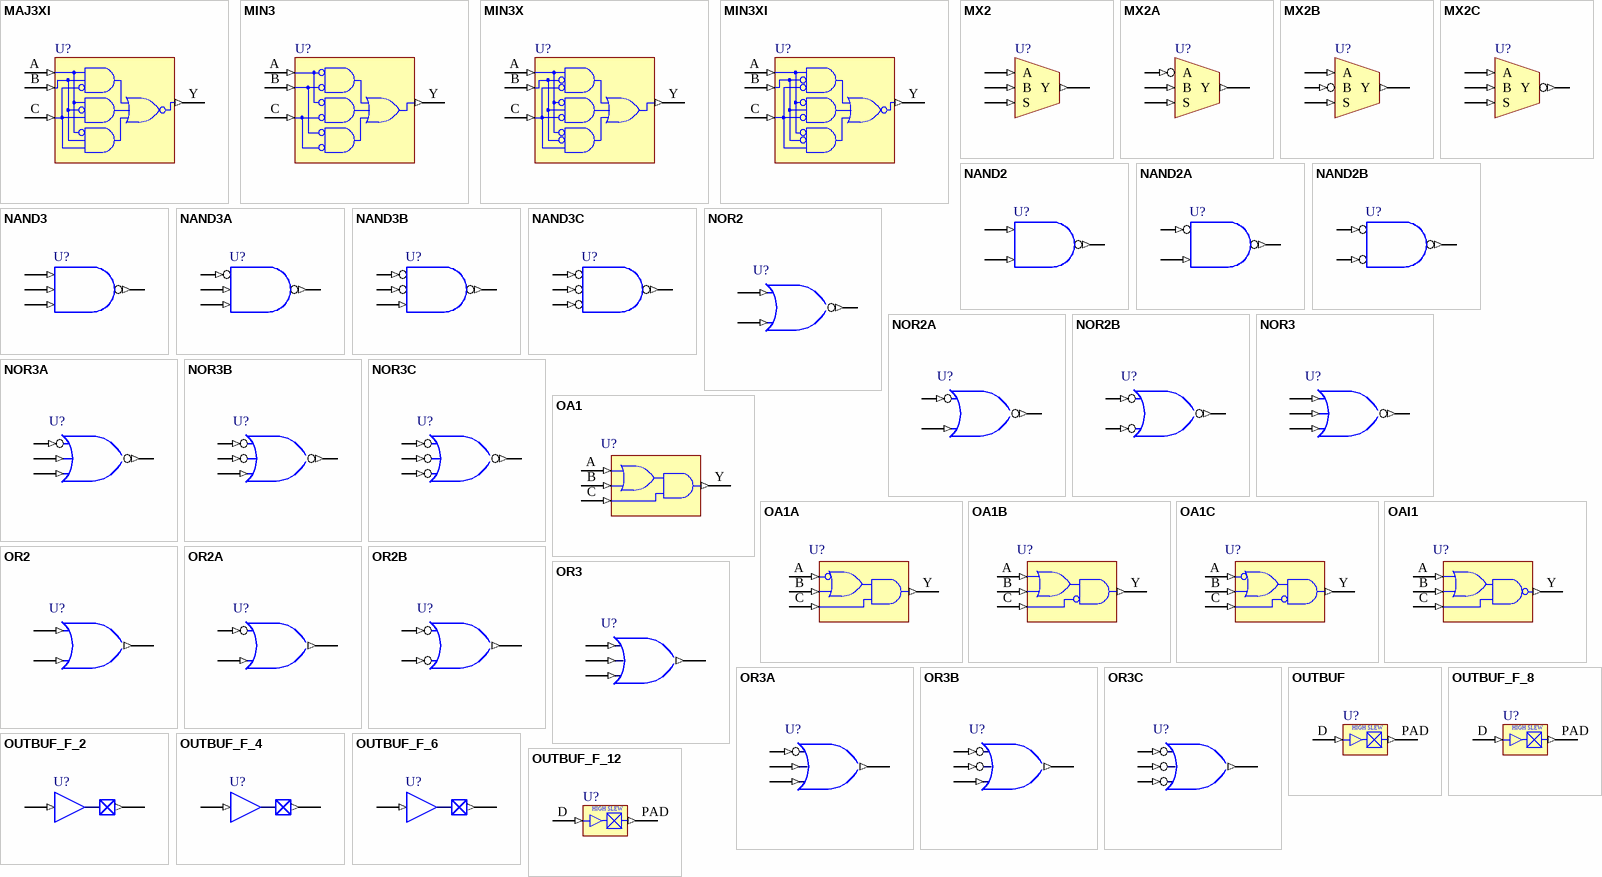
[diagram p7: symbols MAJ3XI to OUTBUF_F_12]

## MAJ3XI
designator U?
2-of-3 Function with Active-Low Output; FPGAVendor: Actel; Published: 17/04/2002 3:26:26 PM; LatestRevisionNote: 5/09/2003; DatasheetVersion: Sep-2000; Publisher: Altium Limited; HelpURL: http://www.actel.com/documents/pa3_libguide_ug.pdf
pins: A (in), B (in), C (in), Y (out)

## MIN3
designator U?
3-Input Minority Function; FPGAVendor: Actel; Published: 17/04/2002 3:26:26 PM; LatestRevisionNote: 5/09/2003; DatasheetVersion: Sep-2000; Publisher: Altium Limited; HelpURL: http://www.actel.com/documents/pa3_libguide_ug.pdf
pins: A (in), B (in), C (in), Y (out)

## MIN3X
designator U?
1-of-3 Function; FPGAVendor: Actel; Published: 17/04/2002 3:26:26 PM; LatestRevisionNote: 5/09/2003; DatasheetVersion: Sep-2000; Publisher: Altium Limited; HelpURL: http://www.actel.com/documents/pa3_libguide_ug.pdf
pins: A (in), B (in), C (in), Y (out)

## MIN3XI
designator U?
1-of-3 Function with Active-Low Output; FPGAVendor: Actel; Published: 17/04/2002 3:26:26 PM; LatestRevisionNote: 5/09/2003; DatasheetVersion: Sep-2000; Publisher: Altium Limited; HelpURL: http://www.actel.com/documents/pa3_libguide_ug.pdf
pins: A (in), B (in), C (in), Y (out)

## MX2
designator U?
2-to-1 Multiplexer; FPGAVendor: Actel; Published: 17/04/2002 3:26:26 PM; LatestRevisionNote: 5/09/2003; DatasheetVersion: Sep-2000; Publisher: Altium Limited; HelpURL: http://www.actel.com/documents/pa3_libguide_ug.pdf
pins: A (in), B (in), S (in), Y (out)

## MX2A
designator U?
2-to-1 Multiplexer with Active-Low A-Input; FPGAVendor: Actel; Published: 17/04/2002 3:26:26 PM; LatestRevisionNote: 5/09/2003; DatasheetVersion: Sep-2000; Publisher: Altium Limited; HelpURL: http://www.actel.com/documents/pa3_libguide_ug.pdf
pins: A (in), B (in), S (in), Y (out)

## MX2B
designator U?
2-to-1 Multiplexer with Active-Low B-Input; FPGAVendor: Actel; Published: 17/04/2002 3:26:26 PM; LatestRevisionNote: 5/09/2003; DatasheetVersion: Sep-2000; Publisher: Altium Limited; HelpURL: http://www.actel.com/documents/pa3_libguide_ug.pdf
pins: A (in), B (in), S (in), Y (out)

## MX2C
designator U?
2-to-1 Multiplexer with Active-Low Output; FPGAVendor: Actel; Published: 17/04/2002 3:26:26 PM; LatestRevisionNote: 5/09/2003; DatasheetVersion: Sep-2000; Publisher: Altium Limited; HelpURL: http://www.actel.com/documents/pa3_libguide_ug.pdf
pins: A (in), B (in), S (in), Y (out)

## NAND2
designator U?
2-Input NAND; FPGAVendor: Actel; Published: 17/04/2002 3:26:26 PM; LatestRevisionNote: 5/09/2003; DatasheetVersion: Sep-2000; Publisher: Altium Limited; HelpURL: http://www.actel.com/documents/pa3_libguide_ug.pdf
pins: A (in), B (in), Y (out)

## NAND2A
designator U?
2-Input NAND with Active-Low A-Input; FPGAVendor: Actel; Published: 17/04/2002 3:26:26 PM; LatestRevisionNote: 5/09/2003; DatasheetVersion: Sep-2000; Publisher: Altium Limited; HelpURL: http://www.actel.com/documents/pa3_libguide_ug.pdf
pins: A (in), B (in), Y (out)

## NAND2B
designator U?
2-Input NAND with Active-Low Inputs; FPGAVendor: Actel; Published: 17/04/2002 3:26:26 PM; LatestRevisionNote: 5/09/2003; DatasheetVersion: Sep-2000; Publisher: Altium Limited; HelpURL: http://www.actel.com/documents/pa3_libguide_ug.pdf
pins: A (in), B (in), Y (out)

## NAND3
designator U?
3-Input NAND; FPGAVendor: Actel; Published: 17/04/2002 3:26:26 PM; LatestRevisionNote: 5/09/2003; DatasheetVersion: Sep-2000; Publisher: Altium Limited; HelpURL: http://www.actel.com/documents/pa3_libguide_ug.pdf
pins: A (in), B (in), C (in), Y (out)

## NAND3A
designator U?
3-Input NAND with Active-Low A-Input; FPGAVendor: Actel; Published: 17/04/2002 3:26:26 PM; LatestRevisionNote: 5/09/2003; DatasheetVersion: Sep-2000; Publisher: Altium Limited; HelpURL: http://www.actel.com/documents/pa3_libguide_ug.pdf
pins: A (in), B (in), C (in), Y (out)

## NAND3B
designator U?
3-Input NAND with Active-Low A- and B-Inputs; FPGAVendor: Actel; Published: 17/04/2002 3:26:26 PM; LatestRevisionNote: 5/09/2003; DatasheetVersion: Sep-2000; Publisher: Altium Limited; HelpURL: http://www.actel.com/documents/pa3_libguide_ug.pdf
pins: A (in), B (in), C (in), Y (out)

## NAND3C
designator U?
3-Input NAND with Active-Low Inputs; FPGAVendor: Actel; Published: 17/04/2002 3:26:26 PM; LatestRevisionNote: 5/09/2003; DatasheetVersion: Sep-2000; Publisher: Altium Limited; HelpURL: http://www.actel.com/documents/pa3_libguide_ug.pdf
pins: A (in), B (in), C (in), Y (out)

## NOR2
designator U?
2-Input NOR; FPGAVendor: Actel; Published: 17/04/2002 3:26:26 PM; LatestRevisionNote: 5/09/2003; DatasheetVersion: Sep-2000; Publisher: Altium Limited; HelpURL: http://www.actel.com/documents/pa3_libguide_ug.pdf
pins: A (in), B (in), Y (out)

## NOR2A
designator U?
2-Input NOR with Active-Low A-Input; FPGAVendor: Actel; Published: 17/04/2002 3:26:26 PM; LatestRevisionNote: 5/09/2003; DatasheetVersion: Sep-2000; Publisher: Altium Limited; HelpURL: http://www.actel.com/documents/pa3_libguide_ug.pdf
pins: A (in), B (in), Y (out)

## NOR2B
designator U?
2-Input NOR with Active-Low Inputs; FPGAVendor: Actel; Published: 17/04/2002 3:26:26 PM; LatestRevisionNote: 5/09/2003; DatasheetVersion: Sep-2000; Publisher: Altium Limited; HelpURL: http://www.actel.com/documents/pa3_libguide_ug.pdf
pins: A (in), B (in), Y (out)

## NOR3
designator U?
3-Input NOR; FPGAVendor: Actel; Published: 17/04/2002 3:26:26 PM; LatestRevisionNote: 5/09/2003; DatasheetVersion: Sep-2000; Publisher: Altium Limited; HelpURL: http://www.actel.com/documents/pa3_libguide_ug.pdf
pins: A (in), B (in), C (in), Y (out)

## NOR3A
designator U?
3-Input NOR with Active-Low A-Input; FPGAVendor: Actel; Published: 17/04/2002 3:26:26 PM; LatestRevisionNote: 5/09/2003; DatasheetVersion: Sep-2000; Publisher: Altium Limited; HelpURL: http://www.actel.com/documents/pa3_libguide_ug.pdf
pins: A (in), B (in), C (in), Y (out)

## NOR3B
designator U?
3-Input NOR with Active-Low A- and B-Inputs; FPGAVendor: Actel; Published: 17/04/2002 3:26:26 PM; LatestRevisionNote: 5/09/2003; DatasheetVersion: Sep-2000; Publisher: Altium Limited; HelpURL: http://www.actel.com/documents/pa3_libguide_ug.pdf
pins: A (in), B (in), C (in), Y (out)

## NOR3C
designator U?
3-Input NOR with Active-Low Inputs; FPGAVendor: Actel; Published: 17/04/2002 3:26:26 PM; LatestRevisionNote: 5/09/2003; DatasheetVersion: Sep-2000; Publisher: Altium Limited; HelpURL: http://www.actel.com/documents/pa3_libguide_ug.pdf
pins: A (in), B (in), C (in), Y (out)

## OA1
designator U?
3-Input OR-AND; FPGAVendor: Actel; Published: 17/04/2002 3:26:26 PM; LatestRevisionNote: 5/09/2003; DatasheetVersion: Sep-2000; Publisher: Altium Limited; HelpURL: http://www.actel.com/documents/pa3_libguide_ug.pdf
pins: A (in), B (in), C (in), Y (out)

## OA1A
designator U?
3-Input OR-AND with Active-Low A-Input; FPGAVendor: Actel; Published: 17/04/2002 3:26:26 PM; LatestRevisionNote: 5/09/2003; DatasheetVersion: Sep-2000; Publisher: Altium Limited; HelpURL: http://www.actel.com/documents/pa3_libguide_ug.pdf
pins: A (in), B (in), C (in), Y (out)

## OA1B
designator U?
3-Input OR-AND with Active-Low C-Input; FPGAVendor: Actel; Published: 17/04/2002 3:26:26 PM; LatestRevisionNote: 5/09/2003; DatasheetVersion: Sep-2000; Publisher: Altium Limited; HelpURL: http://www.actel.com/documents/pa3_libguide_ug.pdf
pins: A (in), B (in), C (in), Y (out)

## OA1C
designator U?
3-Input OR-AND with Active-Low A- and C-Inputs; FPGAVendor: Actel; Published: 17/04/2002 3:26:26 PM; LatestRevisionNote: 5/09/2003; DatasheetVersion: Sep-2000; Publisher: Altium Limited; HelpURL: http://www.actel.com/documents/pa3_libguide_ug.pdf
pins: A (in), B (in), C (in), Y (out)

## OAI1
designator U?
3-Input OR-AND-INVERT; FPGAVendor: Actel; Published: 17/04/2002 3:26:26 PM; LatestRevisionNote: 5/09/2003; DatasheetVersion: Sep-2000; Publisher: Altium Limited; HelpURL: http://www.actel.com/documents/pa3_libguide_ug.pdf
pins: A (in), B (in), C (in), Y (out)

## OR2
designator U?
2-Input OR; FPGAVendor: Actel; Published: 17/04/2002 3:26:26 PM; LatestRevisionNote: 5/09/2003; DatasheetVersion: Sep-2000; Publisher: Altium Limited; HelpURL: http://www.actel.com/documents/pa3_libguide_ug.pdf
pins: A (in), B (in), Y (out)

## OR2A
designator U?
2-Input OR with Active-Low A-Input; FPGAVendor: Actel; Published: 17/04/2002 3:26:26 PM; LatestRevisionNote: 5/09/2003; DatasheetVersion: Sep-2000; Publisher: Altium Limited; HelpURL: http://www.actel.com/documents/pa3_libguide_ug.pdf
pins: A (in), B (in), Y (out)

## OR2B
designator U?
2-Input OR with Active-Low Inputs; FPGAVendor: Actel; Published: 17/04/2002 3:26:26 PM; LatestRevisionNote: 5/09/2003; DatasheetVersion: Sep-2000; Publisher: Altium Limited; HelpURL: http://www.actel.com/documents/pa3_libguide_ug.pdf
pins: A (in), B (in), Y (out)

## OR3
designator U?
3-Input OR; FPGAVendor: Actel; Published: 17/04/2002 3:26:26 PM; LatestRevisionNote: 5/09/2003; DatasheetVersion: Sep-2000; Publisher: Altium Limited; HelpURL: http://www.actel.com/documents/pa3_libguide_ug.pdf
pins: A (in), B (in), C (in), Y (out)

## OR3A
designator U?
3-Input OR with Active-Low A-Input; FPGAVendor: Actel; Published: 17/04/2002 3:26:26 PM; LatestRevisionNote: 5/09/2003; DatasheetVersion: Sep-2000; Publisher: Altium Limited; HelpURL: http://www.actel.com/documents/pa3_libguide_ug.pdf
pins: A (in), B (in), C (in), Y (out)

## OR3B
designator U?
3-Input OR with Active-Low A- and B-Inputs; FPGAVendor: Actel; Published: 17/04/2002 3:26:26 PM; LatestRevisionNote: 5/09/2003; DatasheetVersion: Sep-2000; Publisher: Altium Limited; HelpURL: http://www.actel.com/documents/pa3_libguide_ug.pdf
pins: A (in), B (in), C (in), Y (out)

## OR3C
designator U?
3-Input OR with Active-Low Inputs; FPGAVendor: Actel; Published: 17/04/2002 3:26:26 PM; LatestRevisionNote: 5/09/2003; DatasheetVersion: Sep-2000; Publisher: Altium Limited; HelpURL: http://www.actel.com/documents/pa3_libguide_ug.pdf
pins: A (in), B (in), C (in), Y (out)

## OUTBUF
designator U?
Output Buffer with High Slew; FPGAVendor: Actel; Published: 17/04/2002 3:26:26 PM; LatestRevisionNote: 5/09/2003; DatasheetVersion: Sep-2000; Publisher: Altium Limited; HelpURL: http://www.actel.com/documents/pa3_libguide_ug.pdf
pins: D (in), PAD (out)
text: HIGH SLEW

## OUTBUF_F_2
designator U?
Output buffer with high slew; FPGAVendor: Actel; Published: 25-Oct-2005; Publisher: Altium Limited; HelpURL: http://www.actel.com/documents/pa3_libguide_ug.pdf
pins: D (in), PAD (out)

## OUTBUF_F_4
designator U?
Output buffer with high slew; FPGAVendor: Actel; Published: 25-Oct-2005; Publisher: Altium Limited; HelpURL: http://www.actel.com/documents/pa3_libguide_ug.pdf
pins: D (in), PAD (out)

## OUTBUF_F_6
designator U?
Output buffer with high slew; FPGAVendor: Actel; Published: 25-Oct-2005; Publisher: Altium Limited; HelpURL: http://www.actel.com/documents/pa3_libguide_ug.pdf
pins: D (in), PAD (out)

## OUTBUF_F_8
designator U?
Output buffer with high slew and 1x drive strength; FPGAVendor: Actel; Published: 28-Jan-2003; LatestRevisionNote: 5/09/2003; DatasheetVersion: Jun-2002; Publisher: Altium Limited; HelpURL: http://www.actel.com/documents/pa3_libguide_ug.pdf
pins: D (in), PAD (out)
text: HIGH SLEW

## OUTBUF_F_12
designator U?
Output buffer with high slew and 2x drive strength; FPGAVendor: Actel; Published: 28-Jan-2003; LatestRevisionNote: 5/09/2003; DatasheetVersion: Jun-2002; Publisher: Altium Limited; HelpURL: http://www.actel.com/documents/pa3_libguide_ug.pdf
pins: D (in), PAD (out)
text: HIGH SLEW

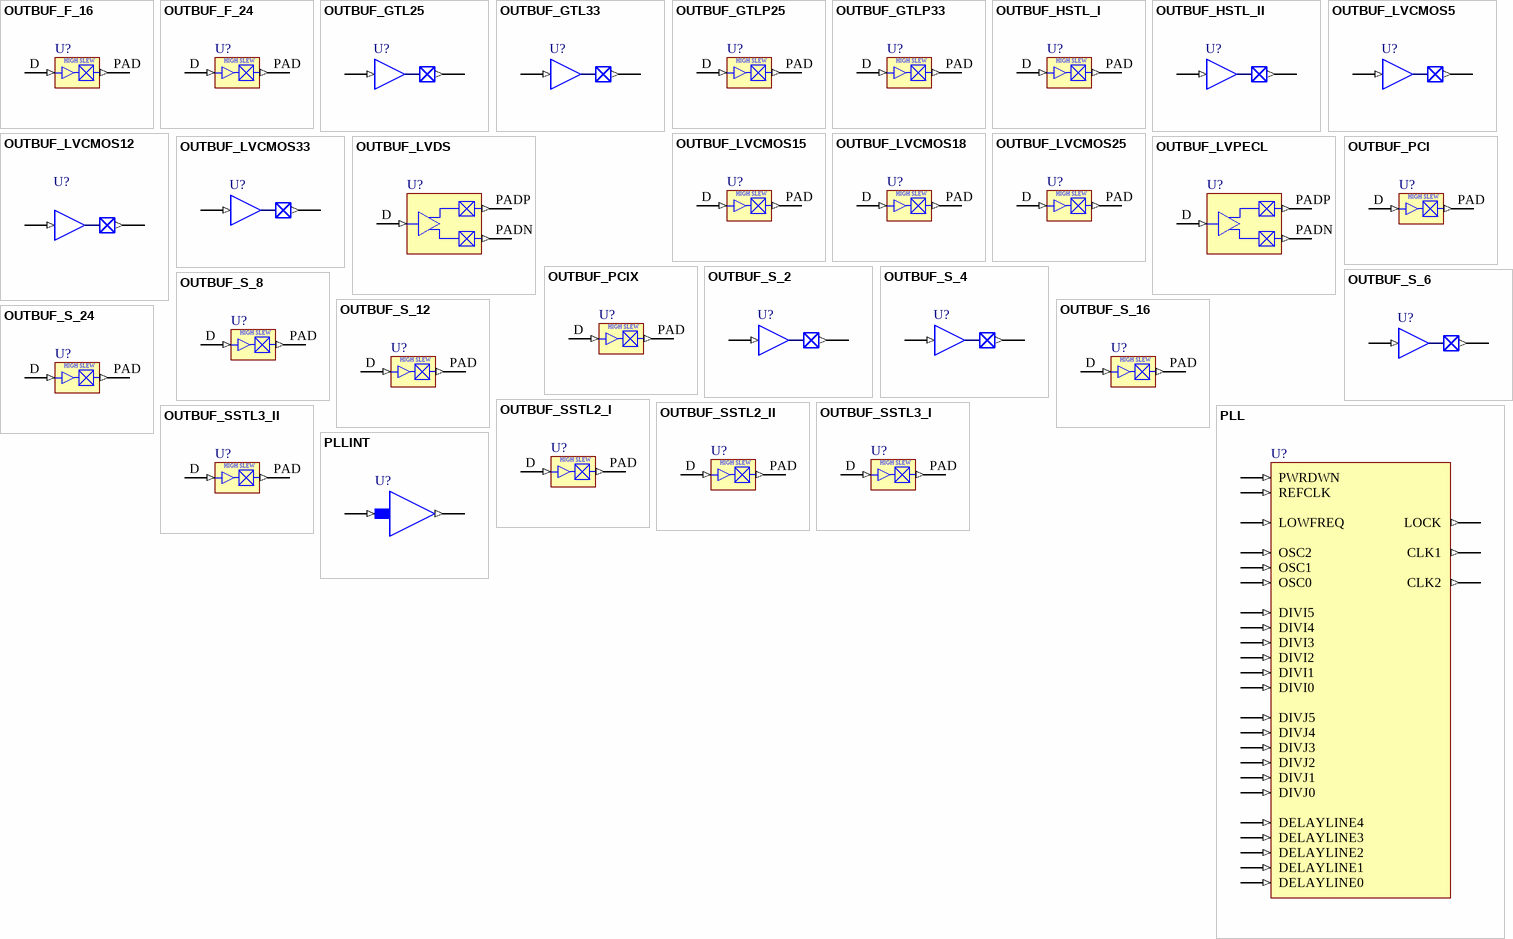
[diagram p8: symbols OUTBUF_F_16 to PLLINT]

## OUTBUF_F_16
designator U?
Output buffer with high slew and 3x drive strength; FPGAVendor: Actel; Published: 28-Jan-2003; LatestRevisionNote: 5/09/2003; DatasheetVersion: Jun-2002; Publisher: Altium Limited; HelpURL: http://www.actel.com/documents/pa3_libguide_ug.pdf
pins: D (in), PAD (out)
text: HIGH SLEW

## OUTBUF_F_24
designator U?
Output buffer with high slew and 4x drive strength; FPGAVendor: Actel; Published: 28-Jan-2003; LatestRevisionNote: 5/09/2003; DatasheetVersion: Jun-2002; Publisher: Altium Limited; HelpURL: http://www.actel.com/documents/pa3_libguide_ug.pdf
pins: D (in), PAD (out)
text: HIGH SLEW

## OUTBUF_GTL25
designator U?
GTL output buffer; FPGAVendor: Actel; Published: 7-Sep-2009; Publisher: Altium Limited; HelpURL: http://www.actel.com/documents/pa3_libguide_ug.pdf
pins: D (in), PAD (out)

## OUTBUF_GTL33
designator U?
GTL output buffer; FPGAVendor: Actel; Published: 7-Sep-2009; Publisher: Altium Limited; HelpURL: http://www.actel.com/documents/pa3_libguide_ug.pdf
pins: D (in), PAD (out)

## OUTBUF_GTLP25
designator U?
GTLP Output buffer with 2.5 CMOS voltage level; FPGAVendor: Actel; Published: 28-Jan-2003; LatestRevisionNote: 5/09/2003; DatasheetVersion: Jun-2002; Publisher: Altium Limited; HelpURL: http://www.actel.com/documents/pa3_libguide_ug.pdf
pins: D (in), PAD (out)
text: HIGH SLEW

## OUTBUF_GTLP33
designator U?
GTLP Output buffer with 3.3 CMOS voltage level; FPGAVendor: Actel; Published: 28-Jan-2003; LatestRevisionNote: 5/09/2003; DatasheetVersion: Jun-2002; Publisher: Altium Limited; HelpURL: http://www.actel.com/documents/pa3_libguide_ug.pdf
pins: D (in), PAD (out)
text: HIGH SLEW

## OUTBUF_HSTL_I
designator U?
Output Buffer, High Slew, HSTL Class I; FPGAVendor: Actel; Published: 28-Jan-2003; LatestRevisionNote: 5/09/2003; DatasheetVersion: Jun-2002; Publisher: Altium Limited; HelpURL: http://www.actel.com/documents/pa3_libguide_ug.pdf
pins: D (in), PAD (out)
text: HIGH SLEW

## OUTBUF_HSTL_II
designator U?
HSTL class II output buffer; FPGAVendor: Actel; Published: 7-Sep-2009; Publisher: Altium Limited; HelpURL: http://www.actel.com/documents/pa3_libguide_ug.pdf
pins: D (in), PAD (out)

## OUTBUF_LVCMOS5
designator U?
LVCMOS15 Output buffer with 5.0 CMOS Voltage Level; FPGAVendor: Actel; Published: 25-Oct-2005; Publisher: Altium Limited; HelpURL: http://www.actel.com/documents/pa3_libguide_ug.pdf
pins: D (in), PAD (out)

## OUTBUF_LVCMOS12
designator U?
LVCMOS12 Input Output Buffer Pad; FPGAVendor: Actel; Published: 7-Sep-2009; Publisher: Altium Limited; HelpURL: http://www.actel.com/documents/pa3_libguide_ug.pdf
pins: D (in), PAD (out)

## OUTBUF_LVCMOS15
designator U?
LVCMOS Output buffer with 1.5 CMOS voltage level; FPGAVendor: Actel; Published: 28-Jan-2003; LatestRevisionNote: 5/09/2003; DatasheetVersion: Jun-2002; Publisher: Altium Limited; HelpURL: http://www.actel.com/documents/pa3_libguide_ug.pdf
pins: D (in), PAD (out)
text: HIGH SLEW

## OUTBUF_LVCMOS18
designator U?
LVCMOS Output buffer with 1.8 CMOS voltage level; FPGAVendor: Actel; Published: 28-Jan-2003; LatestRevisionNote: 5/09/2003; DatasheetVersion: Jun-2002; Publisher: Altium Limited; HelpURL: http://www.actel.com/documents/pa3_libguide_ug.pdf
pins: D (in), PAD (out)
text: HIGH SLEW

## OUTBUF_LVCMOS25
designator U?
LVCMOS Output buffer with 2.5 CMOS voltage level; FPGAVendor: Actel; Published: 28-Jan-2003; LatestRevisionNote: 5/09/2003; DatasheetVersion: Jun-2002; Publisher: Altium Limited; HelpURL: http://www.actel.com/documents/pa3_libguide_ug.pdf
pins: D (in), PAD (out)
text: HIGH SLEW

## OUTBUF_LVCMOS33
designator U?
LVCMOS15 Output buffer with 3.3 CMOS Voltage Level; FPGAVendor: Actel; Published: 25-Oct-2005; Publisher: Altium Limited; HelpURL: http://www.actel.com/documents/pa3_libguide_ug.pdf
pins: D (in), PAD (out)

## OUTBUF_LVDS
designator U?
OUTBUF_LVDS and OUTBUF_LVPECL; FPGAVendor: Actel; Published: 28-Jan-2003; LatestRevisionNote: 5/09/2003; DatasheetVersion: Jun-2002; Publisher: Altium Limited; HelpURL: http://www.actel.com/documents/pa3_libguide_ug.pdf
pins: D (in), PADN (out), PADP (out)

## OUTBUF_LVPECL
designator U?
OUTBUF_LVDS and OUTBUF_LVPECL; FPGAVendor: Actel; Published: 28-Jan-2003; LatestRevisionNote: 5/09/2003; DatasheetVersion: Jun-2002; Publisher: Altium Limited; HelpURL: http://www.actel.com/documents/pa3_libguide_ug.pdf
pins: D (in), PADN (out), PADP (out)

## OUTBUF_PCI
designator U?
PCI Output buffer; FPGAVendor: Actel; Published: 28-Jan-2003; LatestRevisionNote: 5/09/2003; DatasheetVersion: Jun-2002; Publisher: Altium Limited; HelpURL: http://www.actel.com/documents/pa3_libguide_ug.pdf
pins: D (in), PAD (out)
text: HIGH SLEW

## OUTBUF_PCIX
designator U?
PCIX Output buffer; FPGAVendor: Actel; Published: 28-Jan-2003; LatestRevisionNote: 5/09/2003; DatasheetVersion: Jun-2002; Publisher: Altium Limited; HelpURL: http://www.actel.com/documents/pa3_libguide_ug.pdf
pins: D (in), PAD (out)
text: HIGH SLEW

## OUTBUF_S_2
designator U?
Output buffer with low slew; FPGAVendor: Actel; Published: 25-Oct-2005; Publisher: Altium Limited; HelpURL: http://www.actel.com/documents/pa3_libguide_ug.pdf
pins: D (in), PAD (out)

## OUTBUF_S_4
designator U?
Output buffer with low slew; FPGAVendor: Actel; Published: 25-Oct-2005; Publisher: Altium Limited; HelpURL: http://www.actel.com/documents/pa3_libguide_ug.pdf
pins: D (in), PAD (out)

## OUTBUF_S_6
designator U?
Output buffer with low slew; FPGAVendor: Actel; Published: 25-Oct-2005; Publisher: Altium Limited; HelpURL: http://www.actel.com/documents/pa3_libguide_ug.pdf
pins: D (in), PAD (out)

## OUTBUF_S_8
designator U?
Output buffer with low slew and 1x drive strength; FPGAVendor: Actel; Published: 28-Jan-2003; LatestRevisionNote: 5/09/2003; DatasheetVersion: Jun-2002; Publisher: Altium Limited; HelpURL: http://www.actel.com/documents/pa3_libguide_ug.pdf
pins: D (in), PAD (out)
text: HIGH SLEW

## OUTBUF_S_12
designator U?
Output buffer with low slew and 2x drive strength; FPGAVendor: Actel; Published: 28-Jan-2003; LatestRevisionNote: 5/09/2003; DatasheetVersion: Jun-2002; Publisher: Altium Limited; HelpURL: http://www.actel.com/documents/pa3_libguide_ug.pdf
pins: D (in), PAD (out)
text: HIGH SLEW

## OUTBUF_S_16
designator U?
Output buffer with low slew and 3x drive strength; FPGAVendor: Actel; Published: 28-Jan-2003; LatestRevisionNote: 5/09/2003; DatasheetVersion: Jun-2002; Publisher: Altium Limited; HelpURL: http://www.actel.com/documents/pa3_libguide_ug.pdf
pins: D (in), PAD (out)
text: HIGH SLEW

## OUTBUF_S_24
designator U?
Output buffer with low slew and 4x drive strength; FPGAVendor: Actel; Published: 28-Jan-2003; LatestRevisionNote: 5/09/2003; DatasheetVersion: Jun-2002; Publisher: Altium Limited; HelpURL: http://www.actel.com/documents/pa3_libguide_ug.pdf
pins: D (in), PAD (out)
text: HIGH SLEW

## OUTBUF_SSTL2_I
designator U?
Output Buffer, High Slew, SSTL2 Class I; FPGAVendor: Actel; Published: 28-Jan-2003; LatestRevisionNote: 5/09/2003; DatasheetVersion: Jun-2002; Publisher: Altium Limited; HelpURL: http://www.actel.com/documents/pa3_libguide_ug.pdf
pins: D (in), PAD (out)
text: HIGH SLEW

## OUTBUF_SSTL2_II
designator U?
Output Buffer, High Slew, SSTL3 Class II; FPGAVendor: Actel; Published: 28-Jan-2003; LatestRevisionNote: 5/09/2003; DatasheetVersion: Jun-2002; Publisher: Altium Limited; HelpURL: http://www.actel.com/documents/pa3_libguide_ug.pdf
pins: D (in), PAD (out)
text: HIGH SLEW

## OUTBUF_SSTL3_I
designator U?
Output Buffer, High Slew, SSTL3 Class I; FPGAVendor: Actel; Published: 28-Jan-2003; LatestRevisionNote: 5/09/2003; DatasheetVersion: Jun-2002; Publisher: Altium Limited; HelpURL: http://www.actel.com/documents/pa3_libguide_ug.pdf
pins: D (in), PAD (out)
text: HIGH SLEW

## OUTBUF_SSTL3_II
designator U?
Output Buffer, High Slew, SSTL3 Class II; FPGAVendor: Actel; Published: 28-Jan-2003; LatestRevisionNote: 5/09/2003; DatasheetVersion: Jun-2002; Publisher: Altium Limited; HelpURL: http://www.actel.com/documents/pa3_libguide_ug.pdf
pins: D (in), PAD (out)
text: HIGH SLEW

## PLL
designator U?
PLL with internal feedback;; FPGAVendor: Actel; Published: 28-Jan-2003; LatestRevisionNote: 5/09/2003; DatasheetVersion: Jun-2002; Publisher: Altium Limited; HelpURL: http://www.actel.com/documents/pa3_libguide_ug.pdf
pins: CLK1 (out), CLK2 (out), DELAYLINE0 (in), DELAYLINE1 (in), DELAYLINE2 (in), DELAYLINE3 (in), DELAYLINE4 (in), DIVI0 (in), DIVI1 (in), DIVI2 (in), DIVI3 (in), DIVI4 (in), DIVI5 (in), DIVJ0 (in), DIVJ1 (in), DIVJ2 (in), DIVJ3 (in), DIVJ4 (in), DIVJ5 (in), LOCK (out), LOWFREQ (in), OSC0 (in), OSC1 (in), OSC2 (in), PWRDWN (in), REFCLK (in)

## PLLINT
designator U?
PLL Int; FPGAVendor: Actel; Published: 28-Jan-2003; LatestRevisionNote: 5/09/2003; DatasheetVersion: Jun-2002; Publisher: Altium Limited; HelpURL: http://www.actel.com/documents/pa3_libguide_ug.pdf
pins: A (in), Y (out)

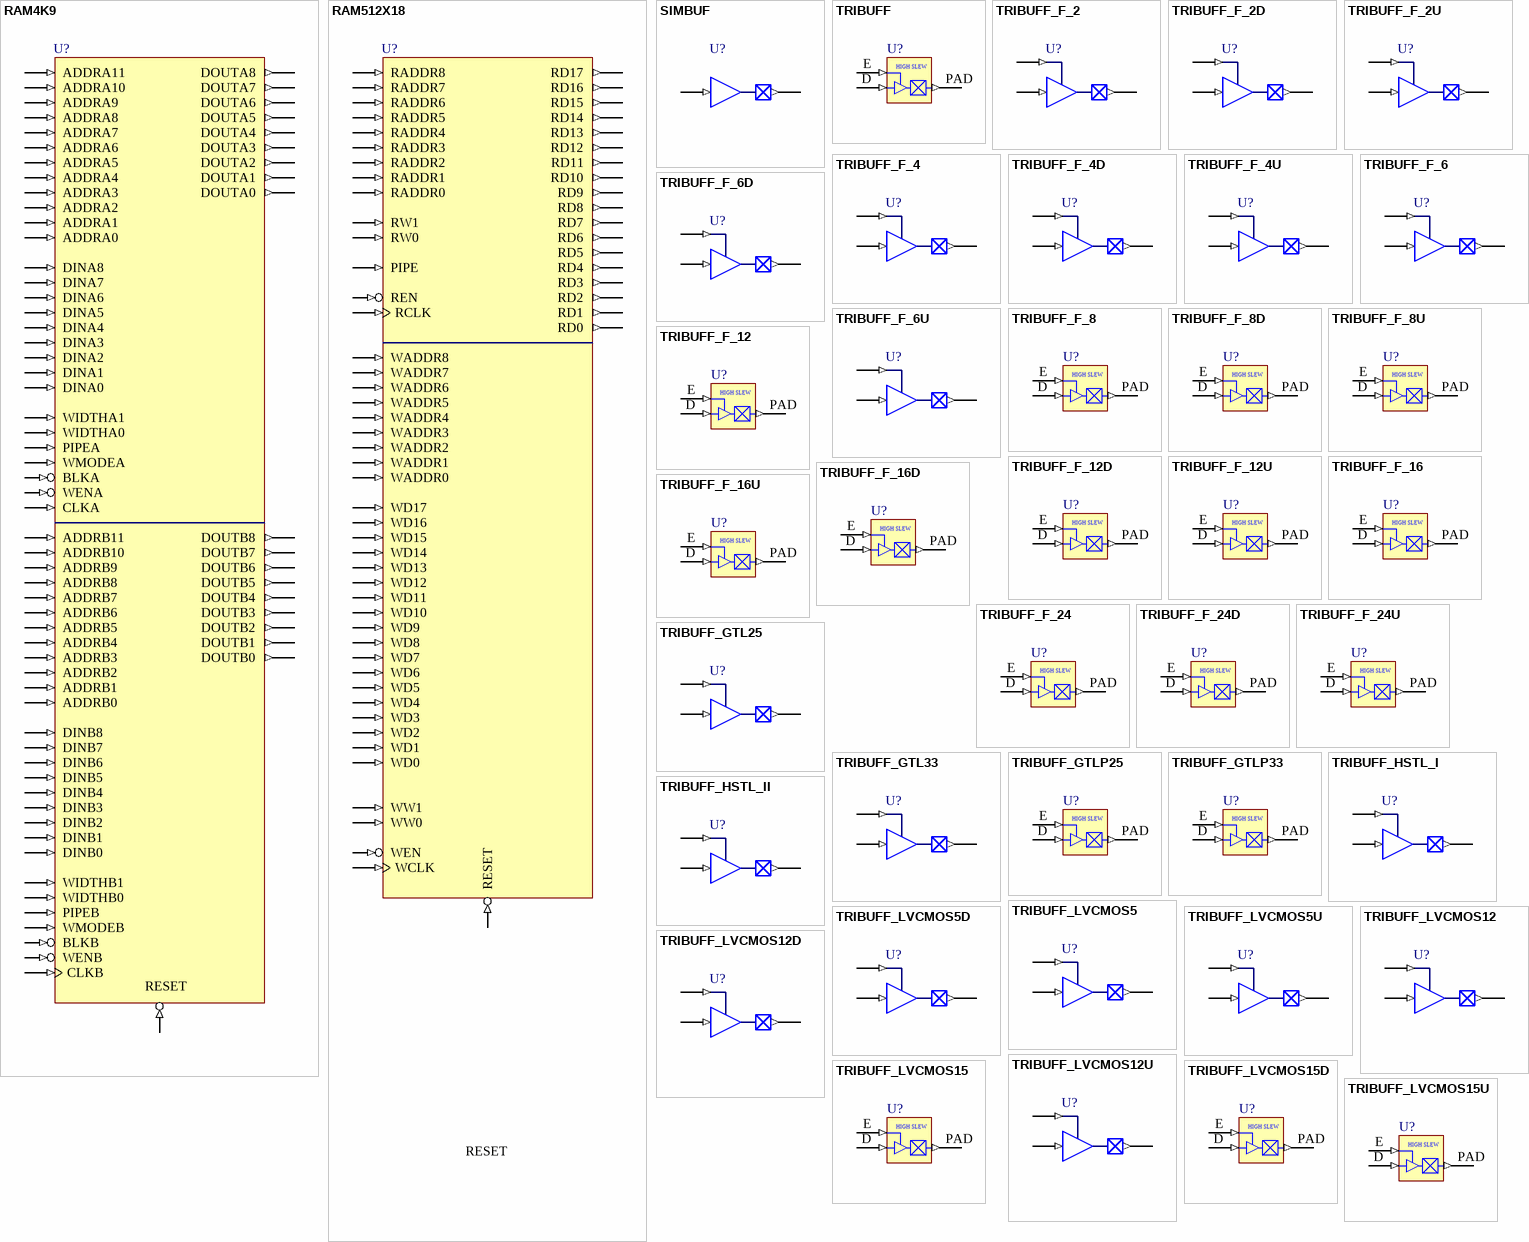
[diagram p9: symbols RAM4K9 to TRIBUFF_LVCMOS15U]

## RAM4K9
designator U?
RAM4K9 is a fully synchronous, true dual-port RAM with an optional pipeline stage; FPGAVendor: Actel; Published: 25-Oct-2005; Publisher: Altium Limited; HelpURL: http://www.actel.com/documents/pa3_libguide_ug.pdf
pins: ADDRA0 (in), ADDRA1 (in), ADDRA2 (in), ADDRA3 (in), ADDRA4 (in), ADDRA5 (in), ADDRA6 (in), ADDRA7 (in), ADDRA8 (in), ADDRA9 (in), ADDRA10 (in), ADDRA11 (in), ADDRB0 (in), ADDRB1 (in), ADDRB2 (in), ADDRB3 (in), ADDRB4 (in), ADDRB5 (in), ADDRB6 (in), ADDRB7 (in), ADDRB8 (in), ADDRB9 (in), ADDRB10 (in), ADDRB11 (in), BLKA (in), BLKB (in), CLKA (in), CLKB (in), DINA0 (in), DINA1 (in), DINA2 (in), DINA3 (in), DINA4 (in), DINA5 (in), DINA6 (in), DINA7 (in), DINA8 (in), DINB0 (in), DINB1 (in), DINB2 (in), DINB3 (in), DINB4 (in), DINB5 (in), DINB6 (in), DINB7 (in), DINB8 (in), DOUTA0 (out), DOUTA1 (out), DOUTA2 (out), DOUTA3 (out), DOUTA4 (out), DOUTA5 (out), DOUTA6 (out), DOUTA7 (out), DOUTA8 (out), DOUTB0 (out), DOUTB1 (out), DOUTB2 (out), DOUTB3 (out), DOUTB4 (out), DOUTB5 (out), DOUTB6 (out), DOUTB7 (out), DOUTB8 (out), PIPEA (in), PIPEB (in), RESET (in), WENA (in), WENB (in), WIDTHA0 (in), WIDTHA1 (in), WIDTHB0 (in), WIDTHB1 (in), WMODEA (in), WMODEB (in)